# EAGLE library part J8064D648A (library pulse-eng)
Ethernet 1x4 Gang Jack
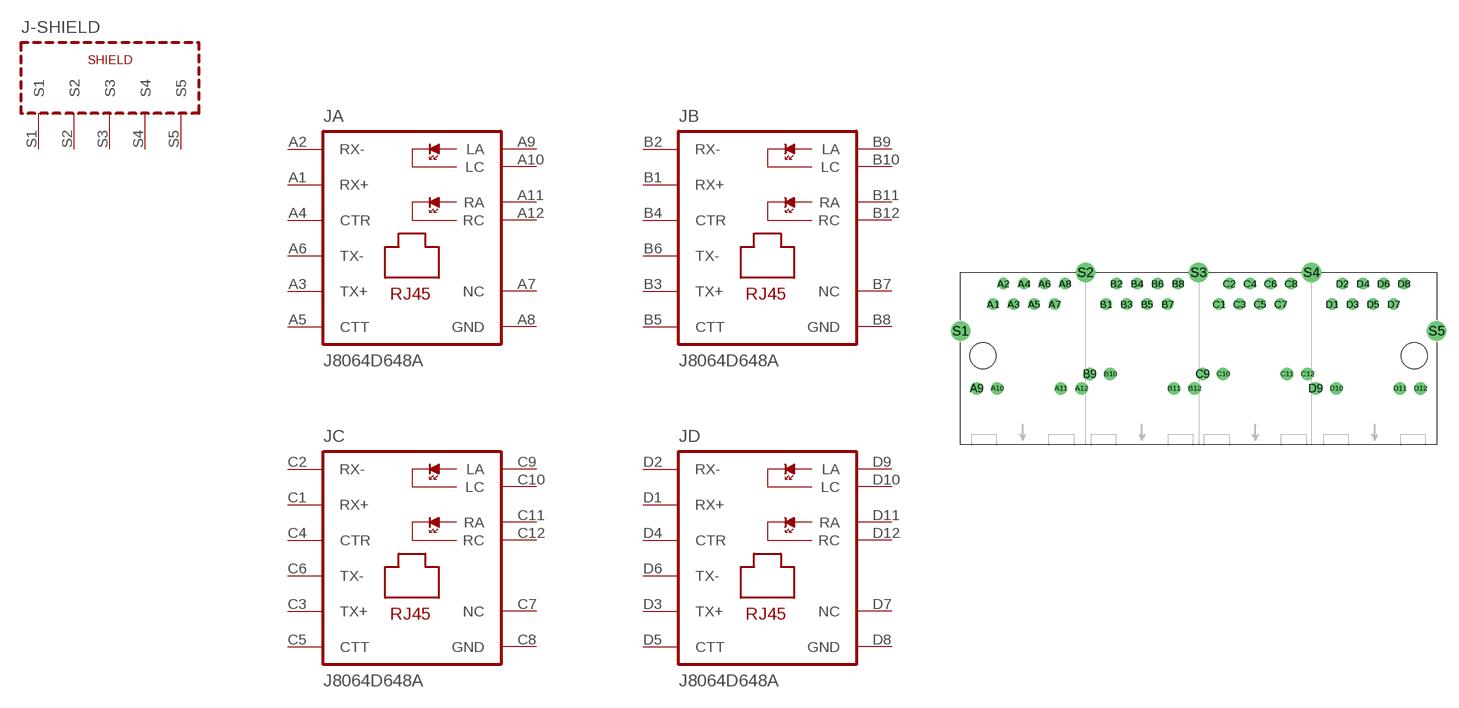
[diagram p2: symbol with the pads of J8064D648A; footprint J8064D648A]

Designator prefix J; gates -SHIELD=J8064-SHIELD A=J8064 B=J8064 C=J8064 D=J8064

## J8064D648A  [J8064D648A]
A1  A:RX+  pas
A2  A:RX-  pas
A3  A:TX+  pas
A4  A:CTR  pas
A5  A:CTT  pas
A6  A:TX-  pas
A7  A:NC  nc
A8  A:GND  pas
A9  A:LA  pas
A10  A:LC  pas
A11  A:RA  pas
A12  A:RC  pas
B1  B:RX+  pas
B2  B:RX-  pas
B3  B:TX+  pas
B4  B:CTR  pas
B5  B:CTT  pas
B6  B:TX-  pas
B7  B:NC  nc
B8  B:GND  pas
B9  B:LA  pas
B10  B:LC  pas
B11  B:RA  pas
B12  B:RC  pas
C1  C:RX+  pas
C2  C:RX-  pas
C3  C:TX+  pas
C4  C:CTR  pas
C5  C:CTT  pas
C6  C:TX-  pas
C7  C:NC  nc
C8  C:GND  pas
C9  C:LA  pas
C10  C:LC  pas
C11  C:RA  pas
C12  C:RC  pas
D1  D:RX+  pas
D2  D:RX-  pas
D3  D:TX+  pas
D4  D:CTR  pas
D5  D:CTT  pas
D6  D:TX-  pas
D7  D:NC  nc
D8  D:GND  pas
D9  D:LA  pas
D10  D:LC  pas
D11  D:RA  pas
D12  D:RC  pas
S1  -SHIELD:S1  pas
S2  -SHIELD:S2  pas
S3  -SHIELD:S3  pas
S4  -SHIELD:S4  pas
S5  -SHIELD:S5  pas

## Footprint J8064D648A (pad centres in mm)
Ethernet 1x4 Gang Jack
drill 0.9: A1 -25.4,-3.937; A2 -24.13,-1.397; A3 -22.86,-3.937; A4 -21.59,-1.397; A5 -20.32,-3.937; A6 -19.05,-1.397; A7 -17.78,-3.937; A8 -16.51,-1.397; B1 -11.43,-3.937; B2 -10.16,-1.397; B3 -8.89,-3.937; B4 -7.62,-1.397; B5 -6.35,-3.937; B6 -5.08,-1.397; B7 -3.81,-3.937; B8 -2.54,-1.397; C1 2.54,-3.937; C2 3.81,-1.397; C3 5.08,-3.937; C4 6.35,-1.397; C5 7.62,-3.937; C6 8.89,-1.397; C7 10.16,-3.937; C8 11.43,-1.397; D1 16.51,-3.937; D2 17.78,-1.397; D3 19.05,-3.937; D4 20.32,-1.397; D5 21.59,-3.937; D6 22.86,-1.397; D7 24.13,-3.937; D8 25.4,-1.397
drill 1.016: A9 -27.432,-14.351; A10 -24.892,-14.351; A11 -17.018,-14.351; A12 -14.478,-14.351; B9 -13.462,-12.573; B10 -10.922,-12.573; B11 -3.048,-14.351; B12 -0.508,-14.351; C9 0.508,-12.573; C10 3.048,-12.573; C11 10.922,-12.573; C12 13.462,-12.573; D9 14.478,-14.351; D10 17.018,-14.351; D11 24.892,-14.351; D12 27.432,-14.351
drill 1.6: S1 -29.439,-7.239; S2 -13.97,0; S3 0,0; S4 13.97,0; S5 29.439,-7.239
hole 3.2 at -26.67,-10.287
hole 3.2 at 26.67,-10.287